# EAGLE library part ADPD105 (library CalvEngIO-Sensors)
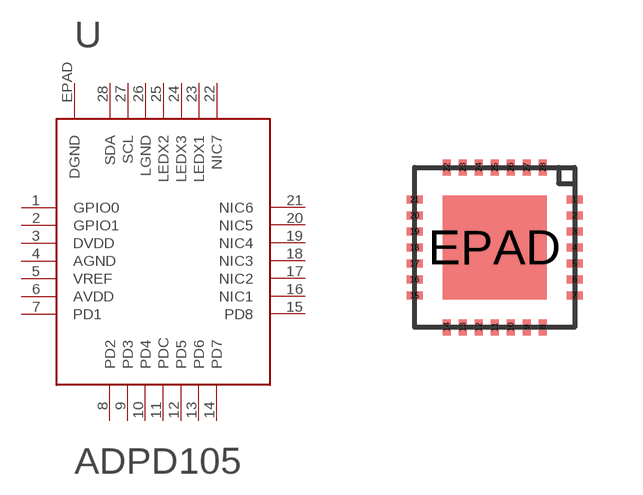
[diagram p3: symbol with the pads of 28-LFCSP; footprint 28-LFCSP]

Designator prefix -

## ADPD105  [28-LFCSP]
1  GPIO0
2  GPIO1
3  DVDD
4  AGND
5  VREF
6  AVDD
7  PD1
8  PD2
9  PD3
10  PD4
11  PDC
12  PD5
13  PD6
14  PD7
15  PD8
16  NIC1
17  NIC2
18  NIC3
19  NIC4
20  NIC5
21  NIC6
22  NIC7
23  LEDX1
24  LEDX3
25  LEDX2
26  LGND
27  SCL
28  SDA
EPAD  DGND

## Footprint 28-LFCSP (pad centres in mm)
smd 0.4 x 0.2: 1 2,1.2; 2 2,0.8; 3 2,0.4; 4 2,0; 5 2,-0.4; 6 2,-0.8; 7 2,-1.2; 15 -2,-1.2; 16 -2,-0.8; 17 -2,-0.4; 18 -2,0; 19 -2,0.4; 20 -2,0.8; 21 -2,1.2
smd 0.2 x 0.4: 8 1.2,-2; 9 0.8,-2; 10 0.4,-2; 11 0,-2; 12 -0.4,-2; 13 -0.8,-2; 14 -1.2,-2; 22 -1.2,2; 23 -0.8,2; 24 -0.4,2; 25 0,2; 26 0.4,2; 27 0.8,2; 28 1.2,2
smd 2.6 x 2.6: EPAD 0,0